# Altium schematic symbol library BFP650.SchLib: 1 symbol
Pins are listed as number, name and electrical type; pins without a type are passive.

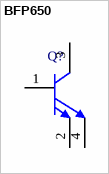
[diagram p0: symbol BFP650]

## BFP650
designator Q?
High Linearity Low Noise SiGe:C NPN RF Transistor, 4 V VCEO, 150 mA IC, 21.5 dB Gmax, SOT343, Green; Manufacturer: Infineon; PartNumber: BFP650; Gmax (typ): 21.5 dB; Green: yes; Group: SiGe; IC (max): 150 mA; NFmin (typ): 0.8 dB; Ptot (max): 500.0 mW; VCEO (max): 4 V; DatasheetVersion: Rev. 1.0; PackageReference: SOT343; PackageDescription: 4-Pin Small Outline Transistor Package, 1.25 x 2 mm Body; Supplier 1: Digi-Key; Supplier Part Number 1: BFP650-ND; Supplier 2: Mouser; Supplier Part Number 2: N/A; Halogen-free: yes; Mounting Technology: Surface Mount; ComponentLink1Description: Manufacturer URL; ComponentLink1URL: http://www.infineon.com/; ComponentLink2Description: Datasheet; ComponentLink2URL: http://www.infineon.com/dgdl/bfp650.pdf?folderId=db3a30431400ef68011425b291f205c5&fileId=db3a30431400ef6801142743b0330715&location=en.Products.RF.RF_Transistors_.High_Linearity_Si-_and_SiGe_C-Transistors_for_use_up_to_6_GHz.DATASHEET.bfp650.pdf; ComponentLink3Description: Package Specification; ComponentLink3URL: http://www.infineon.com/dgdl/SOT343-Package_Overview.pdf?folderId=db3a30431936bc4b0119535155343cba&fileId=db3a30431936bc4b0119535a9f393cd3
footprint INF-SOT343_V (SOT343, 4-Leads, Body 2x1.25 mm)
pins: 1 B, 2 E, 3 C, 4 E